# EAGLE library part LMV324 (library CYCFI_semicon)
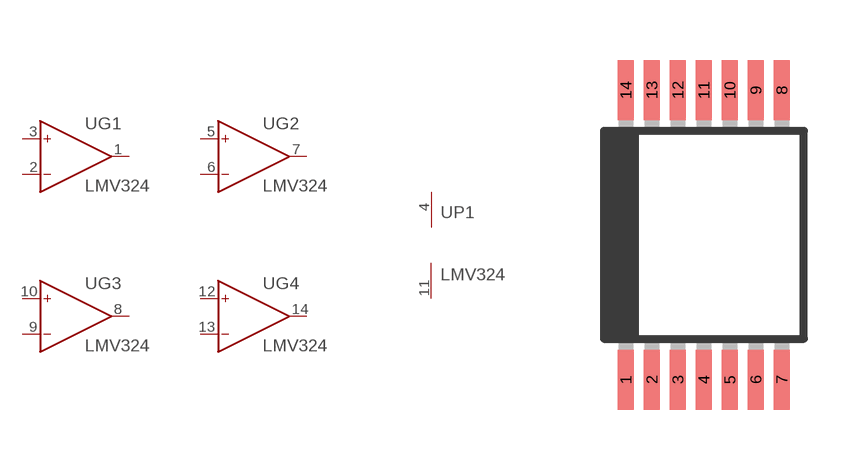
[diagram p2: symbol with the pads of SSOP-14; footprint SSOP-14]

Designator prefix -; gates G1=OP G2=OP G3=OP G4=OP P1=PWR+-

## LMV324  [SSOP-14]
1  G1:OUT  out
2  G1:IN-  in
3  G1:IN+  in
4  P1:V+  pwr
5  G2:IN+  in
6  G2:IN-  in
7  G2:OUT  out
8  G3:OUT  out
9  G3:IN-  in
10  G3:IN+  in
11  P1:V-  pwr
12  G4:IN+  in
13  G4:IN-  in
14  G4:OUT  out

## Footprint SSOP-14 (pad centres in mm)
smd 0.4 x 1.5: 1 -1.95,-3.625; 2 -1.3,-3.625; 3 -0.65,-3.625; 4 0,-3.625; 5 0.65,-3.625; 6 1.3,-3.625; 7 1.95,-3.625; 8 1.95,3.625; 9 1.3,3.625; 10 0.65,3.625; 11 0,3.625; 12 -0.65,3.625; 13 -1.3,3.625; 14 -1.95,3.625